# Altium footprint library OLED_128x64_SSD_1306.PcbLib: 1 footprints
Each footprint in its own frame and in the unit in brackets; x right, y up, seen from the top. Pads: shape width x height; smd on the part's side, far side on the other; paste and mask are expansions set on the pad; w line width, h text height; cw(c..) or ccw(c..) is an arc to the next point about the centre after c.
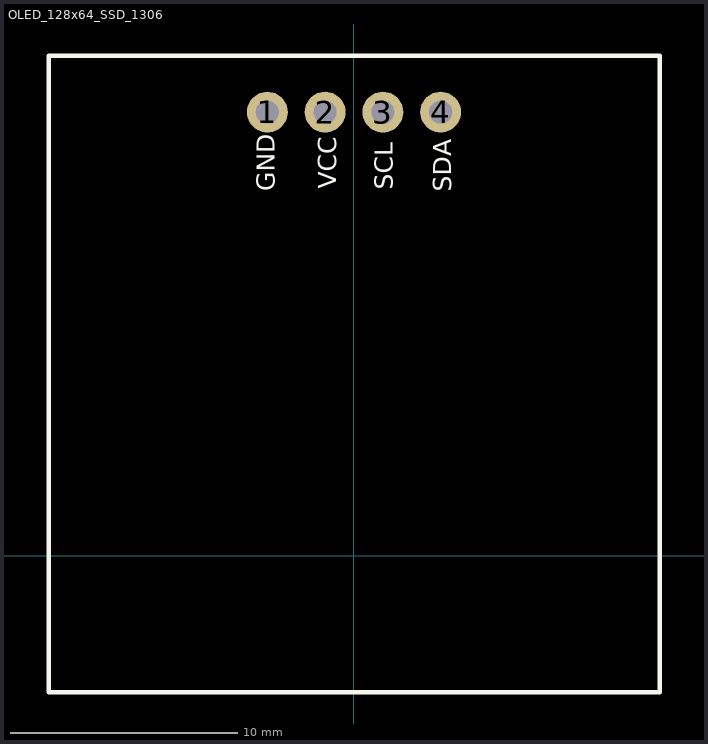
[diagram p0: the footprint, top view; thin cyan lines are the x and y axes]

## OLED_128x64_SSD_1306 [mm]
pads (4):
  round 1.8 hole 1: 1(-3.81,19.5) 2(-1.27,19.5) 3(1.27,19.5) 4(3.81,19.5)
Top Overlay:
  lines w0.2: 13.45,-6 -13.425,-6 -13.425,21.975 13.45,21.975 13.45,-6 ; 13.45,-6 13.45,-6
  text "SCL" at 1.696,16.079 h0.8
  text "SDA" at 4.271,16.004 h0.8
  text "VCC" at -0.779,16.129 h0.8
  text "GND" at -3.479,16.029 h0.8
Top Assembly:
  lines w0.1: -13.45,-5.95 -13.45,21.975 13.45,21.975 13.45,-5.95 -13.45,-5.95
  text "'.Designator'" at -1,-0.3 h0.7
3D body "User Library-128x64I2COLEDDisplayAdafruit.STEP": height 4.97, standoff -5.87, extent -13.35,-5.985 13.35,21.875